# EAGLE library part STM32F030RCT6TR (library STM32F030CT6TR)
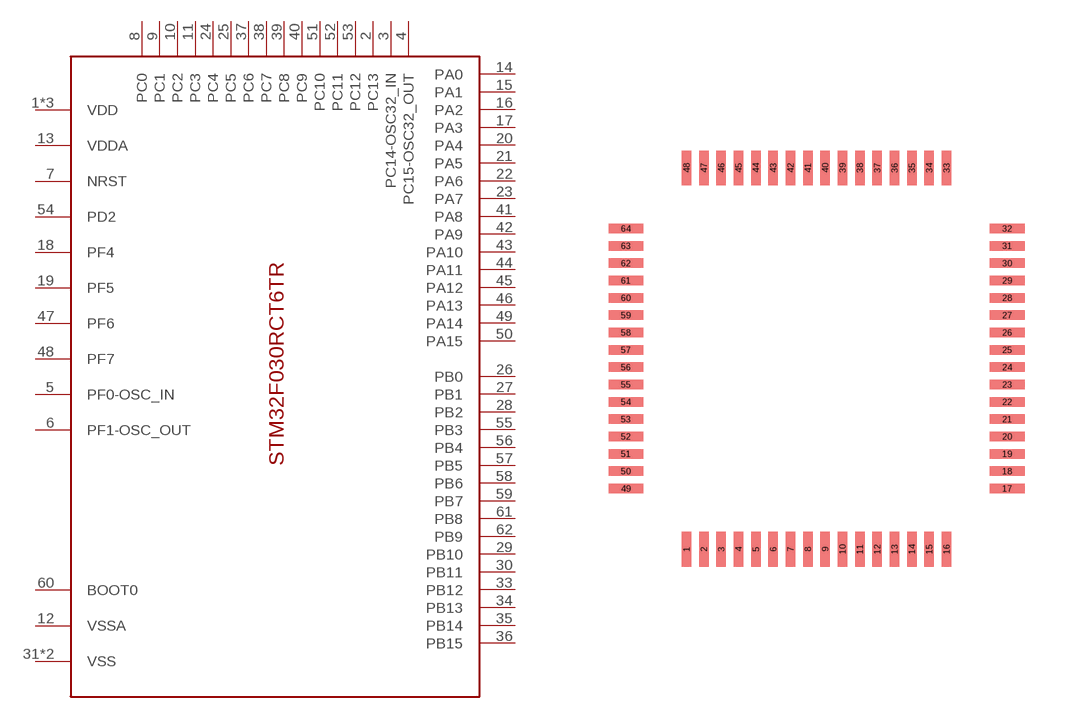
[diagram p0: symbol with the pads of LQFP64; footprint LQFP64]

Designator prefix -

## STM32F030RCT6TR  [LQFP64]
1  VDD
2  PC13
3  PC14-OSC32_IN
4  PC15-OSC32_OUT
5  PF0-OSC_IN
6  PF1-OSC_OUT
7  NRST
8  PC0
9  PC1
10  PC2
11  PC3
12  VSSA
13  VDDA
14  PA0
15  PA1
16  PA2
17  PA3
18  PF4
19  PF5
20  PA4
21  PA5
22  PA6
23  PA7
24  PC4
25  PC5
26  PB0
27  PB1
28  PB2
29  PB10
30  PB11
31  VSS
32  VDD
33  PB12
34  PB13
35  PB14
36  PB15
37  PC6
38  PC7
39  PC8
40  PC9
41  PA8
42  PA9
43  PA10
44  PA11
45  PA12
46  PA13
47  PF6
48  PF7
49  PA14
50  PA15
51  PC10
52  PC11
53  PC12
54  PD2
55  PB3
56  PB4
57  PB5
58  PB6
59  PB7
60  BOOT0
61  PB8
62  PB9
63  VSS
64  VDD

## Footprint LQFP64 (pad centres in mm)
LQFP64
smd 0.27 x 1: 1 -24.65,9.65; 2 -24.15,9.65; 3 -23.65,9.65; 4 -23.15,9.65; 5 -22.65,9.65; 6 -22.15,9.65; 7 -21.65,9.65; 8 -21.15,9.65; 9 -20.65,9.65; 10 -20.15,9.65; 11 -19.65,9.65; 12 -19.15,9.65; 13 -18.65,9.65; 14 -18.15,9.65; 15 -17.65,9.65; 16 -17.15,9.65; 33 -17.15,20.65; 34 -17.65,20.65; 35 -18.15,20.65; 36 -18.65,20.65; 37 -19.15,20.65; 38 -19.65,20.65; 39 -20.15,20.65; 40 -20.65,20.65; 41 -21.15,20.65; 42 -21.65,20.65; 43 -22.15,20.65; 44 -22.65,20.65; 45 -23.15,20.65; 46 -23.65,20.65; 47 -24.15,20.65; 48 -24.65,20.65
smd 1 x 0.27: 17 -15.4,11.4; 18 -15.4,11.9; 19 -15.4,12.4; 20 -15.4,12.9; 21 -15.4,13.4; 22 -15.4,13.9; 23 -15.4,14.4; 24 -15.4,14.9; 25 -15.4,15.4; 26 -15.4,15.9; 27 -15.4,16.4; 28 -15.4,16.9; 29 -15.4,17.4; 30 -15.4,17.9; 31 -15.4,18.4; 32 -15.4,18.9; 49 -26.4,11.4; 50 -26.4,11.9; 51 -26.4,12.4; 52 -26.4,12.9; 53 -26.4,13.4; 54 -26.4,13.9; 55 -26.4,14.4; 56 -26.4,14.9; 57 -26.4,15.4; 58 -26.4,15.9; 59 -26.4,16.4; 60 -26.4,16.9; 61 -26.4,17.4; 62 -26.4,17.9; 63 -26.4,18.4; 64 -26.4,18.9